# Altium schematic symbol library 3x7SegmentDisplay.Schlib: 1 symbol
Pins are listed as number, name and electrical type; pins without a type are passive.

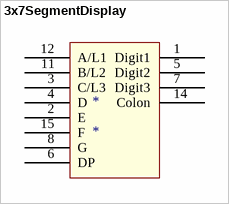
[diagram p0: symbol 3x7SegmentDisplay]

## 3x7SegmentDisplay
designator *
pins: 1 Digit1, 2 E, 3 C/L3, 4 D, 5 Digit2, 6 DP, 7 Digit3, 8 G, 11 B/L2, 12 A/L1, 14 Colon, 15 F